# Altium footprint library frames.PCBLIB: 27 footprints (part 1 of 2)
Each footprint in its own frame and in the unit in brackets; x right, y up, seen from the top. Pads: shape width x height; smd on the part's side, far side on the other; paste and mask are expansions set on the pad; w line width, h text height; cw(c..) or ccw(c..) is an arc to the next point about the centre after c.
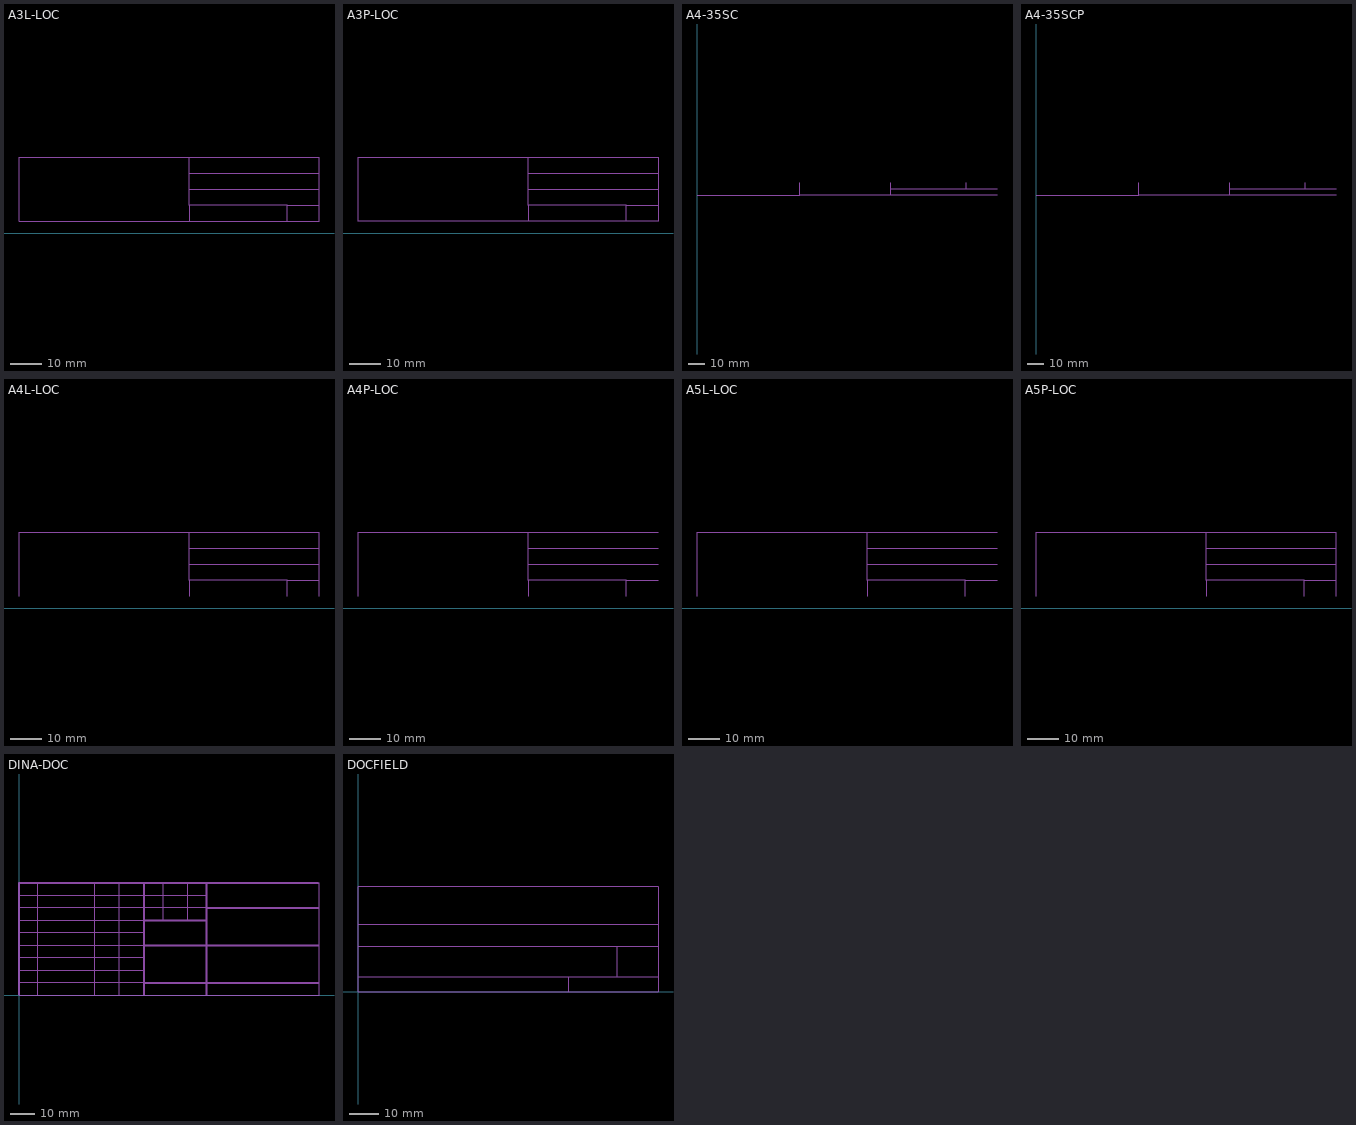
[diagram p0: the footprints below, top view; thin cyan lines are the x and y axes]

## A3L-LOC [mm]
Mechanical 13:
  lines w0.102: 342.265,3.81 288.29,3.81 288.29,24.13 342.265,24.13 ; 342.265,3.81 373.38,3.81 ; 342.265,3.81 342.265,8.89 ; 342.265,8.89 373.38,8.89 ; 342.265,8.89 342.265,13.97 ; 342.265,13.97 383.54,13.97 ; 342.265,13.97 342.265,19.05 ; 342.265,19.05 383.54,19.05 ; 342.265,19.05 342.265,24.13 ; 342.265,24.13 383.54,24.13 383.54,19.05 ; 373.38,3.81 383.54,3.81 383.54,8.89 ; 373.38,3.81 373.38,8.89 ; 373.38,8.89 383.54,8.89 ; 383.54,8.89 383.54,13.97 ; 383.54,13.97 383.54,19.05
  text ">DRAWING_NAME" at 344.17,15.24 h2.16
  text ">LAST_DATE_TIME" at 344.17,10.16 h1.94

## A3P-LOC [mm]
Mechanical 13:
  lines w0.102: 215.265,3.81 246.38,3.81 ; 215.265,3.81 161.29,3.81 161.29,24.13 215.265,24.13 ; 215.265,3.81 215.265,8.89 ; 215.265,8.89 246.38,8.89 ; 215.265,8.89 215.265,13.97 ; 215.265,13.97 256.54,13.97 ; 215.265,13.97 215.265,19.05 ; 215.265,19.05 256.54,19.05 ; 215.265,19.05 215.265,24.13 ; 215.265,24.13 256.54,24.13 256.54,19.05 ; 246.38,3.81 256.54,3.81 256.54,8.89 ; 246.38,3.81 246.38,8.89 ; 246.38,8.89 256.54,8.89 ; 256.54,8.89 256.54,13.97 ; 256.54,13.97 256.54,19.05
  text ">DRAWING_NAME" at 217.17,15.24 h2.16
  text ">LAST_DATE_TIME" at 217.17,10.16 h1.94

## A4-35SC [mm]
Mechanical 13:
  lines w0.254: 0,256.54 63.5,256.54 ; 63.5,264.16 63.5,256.54 ; 119.38,264.16 119.38,260.35 ; 166.37,264.16 166.37,260.35 ; 185.42,256.54 119.38,256.54 ; 185.42,260.35 166.37,260.35 ; 63.5,256.54 119.38,256.54 ; 119.38,256.54 119.38,260.35 ; 119.38,260.35 166.37,260.35
  text "NAME:" at 66.04,259.08 h2.16
  text "DATE:" at 120.65,261.493 h1.3
  text "Devices" at 120.65,257.81 h1.3
  text ">DRAWING_NAME" at 77.47,259.08 h2.16
  text ">Last_Date_Time" at 128.905,261.493 h1.3

## A4-35SCP [mm]
Mechanical 13:
  lines w0.254: 0,269.24 63.5,269.24 ; 63.5,276.86 63.5,269.24 ; 119.38,276.86 119.38,273.05 ; 166.37,276.86 166.37,273.05 ; 185.42,269.24 119.38,269.24 ; 185.42,273.05 166.37,273.05 ; 63.5,269.24 119.38,269.24 ; 119.38,269.24 119.38,273.05 ; 119.38,273.05 166.37,273.05
  text "NAME:" at 66.04,271.78 h2.16
  text "DATE:" at 120.65,274.193 h1.3
  text "Devices" at 120.65,270.51 h1.3
  text ">DRAWING_NAME" at 77.47,271.78 h2.16
  text ">Last_Date_Time" at 128.905,274.193 h1.3

## A4L-LOC [mm]
Mechanical 13:
  lines w0.102: 161.29,3.81 161.29,24.13 215.265,24.13 ; 215.265,3.81 215.265,8.89 ; 246.38,3.81 246.38,8.89 ; 256.54,3.81 256.54,8.89 ; 215.265,8.89 246.38,8.89 ; 215.265,8.89 215.265,13.97 ; 215.265,13.97 256.54,13.97 ; 215.265,13.97 215.265,19.05 ; 215.265,19.05 256.54,19.05 ; 215.265,19.05 215.265,24.13 ; 215.265,24.13 256.54,24.13 256.54,19.05 ; 246.38,8.89 256.54,8.89 ; 256.54,8.89 256.54,13.97 ; 256.54,13.97 256.54,19.05
  text ">DRAWING_NAME" at 217.17,15.24 h2.16
  text ">LAST_DATE_TIME" at 217.17,10.16 h1.94

## A4P-LOC [mm]
Mechanical 13:
  lines w0.102: 85.09,3.81 85.09,24.13 139.065,24.13 ; 139.065,3.81 139.065,8.89 ; 170.18,3.81 170.18,8.89 ; 180.34,8.89 170.18,8.89 ; 180.34,13.97 139.065,13.97 ; 180.34,19.05 139.065,19.05 ; 180.34,24.13 139.065,24.13 ; 139.065,8.89 170.18,8.89 ; 139.065,8.89 139.065,13.97 ; 139.065,13.97 139.065,19.05 ; 139.065,19.05 139.065,24.13
  text ">DRAWING_NAME" at 140.97,15.24 h2.16
  text ">LAST_DATE_TIME" at 140.97,10.16 h1.94

## A5L-LOC [mm]
Mechanical 13:
  lines w0.102: 85.09,3.81 85.09,24.13 139.065,24.13 ; 139.065,3.81 139.065,8.89 ; 170.18,3.81 170.18,8.89 ; 180.34,8.89 170.18,8.89 ; 180.34,13.97 139.065,13.97 ; 180.34,19.05 139.065,19.05 ; 180.34,24.13 139.065,24.13 ; 139.065,8.89 170.18,8.89 ; 139.065,8.89 139.065,13.97 ; 139.065,13.97 139.065,19.05 ; 139.065,19.05 139.065,24.13
  text ">DRAWING_NAME" at 140.97,15.24 h2.16
  text ">LAST_DATE_TIME" at 140.97,10.16 h1.94

## A5P-LOC [mm]
Mechanical 13:
  lines w0.102: 31.75,3.937 31.75,24.257 85.725,24.257 ; 85.725,3.937 85.725,9.017 ; 116.84,3.937 116.84,9.017 ; 127,3.937 127,9.017 ; 85.725,9.017 116.84,9.017 ; 85.725,9.017 85.725,14.097 ; 85.725,14.097 127,14.097 ; 85.725,14.097 85.725,19.177 ; 85.725,19.177 127,19.177 ; 85.725,19.177 85.725,24.257 ; 85.725,24.257 127,24.257 127,19.177 ; 116.84,9.017 127,9.017 ; 127,9.017 127,14.097 ; 127,14.097 127,19.177
  text ">DRAWING_NAME" at 87.63,15.367 h2.16
  text ">LAST_DATE_TIME" at 87.63,10.287 h1.94

## DINA3_L [mm]

## DINA3_P [mm]

## DINA4_L [mm]

## DINA4_P [mm]

## DINA5_L [mm]

## DINA5_P [mm]

## DINA-DOC [mm]
Mechanical 13:
  lines w0.102: 0,0 121.92,0 121.92,45.72
  lines w0.254: 50.8,0.254 50.825,0
  lines w0.305: 0,5.08 50.8,5.08 ; 0,10.16 50.8,10.16 ; 0,15.24 50.8,15.24 ; 0,20.32 50.8,20.32 ; 0,25.4 50.8,25.4 ; 0,30.48 50.8,30.48 ; 0,35.56 76.2,35.56 ; 0,40.64 76.2,40.64 ; 7.62,0.127 7.62,45.72 ; 30.48,0 30.48,45.72 ; 40.64,0 40.64,45.72 ; 58.42,30.48 58.42,45.72 ; 68.58,30.48 68.58,45.72
  lines w0.813: 0,0.381 0,45.72 121.539,45.72 ; 50.8,0.254 50.8,5.08 ; 50.8,45.72 50.8,30.48 ; 76.2,0.381 76.2,30.48 ; 76.2,45.72 76.2,35.56 ; 121.539,5.08 50.8,5.08 ; 121.539,20.32 50.8,20.32 ; 121.539,35.56 76.2,35.56 ; 50.8,5.08 50.8,20.32 ; 50.8,20.32 50.8,30.48 ; 50.8,30.48 76.2,30.48 ; 76.2,30.48 76.2,35.56
  text "Rev" at 1.27,1.905 h2.76
  text "Änderungs-Nr." at 8.89,1.905 h2.76
  text "Tag" at 34.29,1.905 h2.76
  text "Name" at 43.815,1.905 h2.76
  text "Bearb." at 51.435,37.465 h2.17
  text "Gepr." at 52.07,32.385 h2.17
  text "Tag" at 60.96,42.545 h2.76
  text "Name" at 69.215,42.545 h2.76
  text "Benennung" at 77.47,32.385 h2.76
  text "Zeichnungs-Nr." at 77.47,17.145 h2.76
  text ">DRAWING_NAME" at 53.594,1.88 h2.95
  text "zu Gerät" at 52.705,27.94 h1.97
  text "zu Anlage" at 52.705,17.78 h1.97
  text ">LAST_DATE_TIME" at 92.456,1.905 h2.76

## DOCFIELD [mm]
Mechanical 13:
  lines w0.102: 0,5.08 0,0 71.12,0 ; 0,5.08 71.12,5.08 ; 0,5.08 0,15.24 ; 0,15.24 87.63,15.24 ; 0,15.24 0,22.86 ; 0,22.86 101.6,22.86 ; 0,22.86 0,35.56 101.6,35.56 101.6,22.86 ; 71.12,0 71.12,5.08 ; 71.12,0 101.6,0 101.6,5.08 ; 71.12,5.08 87.63,5.08 ; 87.63,5.08 87.63,15.24 ; 87.63,5.08 101.6,5.08 ; 87.63,15.24 101.6,15.24 ; 101.6,5.08 101.6,15.24 ; 101.6,15.24 101.6,22.86
  text "Date:" at 1.27,1.27 h2.16
  text ">LAST_DATE_TIME" at 12.7,1.27 h2.16
  text "REV:" at 88.9,11.43 h2.16
  text "TITLE:" at 1.27,19.05 h2.16
  text "Document Number:" at 1.27,11.43 h2.16
  text ">DRAWING_NAME" at 17.78,19.05 h2.16